# EAGLE library part LTC3529 (library MyParts)
1.5A, 1.5MHz Step-Up DC/DC Converter in 2mm × 3mm DFN
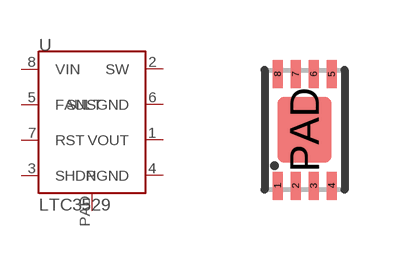
[diagram p17: symbol with the pads of DFN8_2X3; footprint DFN8_2X3]

Designator prefix -

## LTC3529EDCB#PBF  [DFN8_2X3]
1  VOUT  out
2  SW
3  SHDN  in
4  PGND
5  FAULT
6  SNSGND
7  RST  in
8  VIN  in
PAD  PAD

## Footprint DFN8_2X3 (pad centres in mm)
smd 0.25 x 0.7: 1 -0.675,-1.4; 2 -0.225,-1.4; 3 0.225,-1.4; 4 0.675,-1.4; 5 0.675,1.4; 6 0.225,1.4; 7 -0.225,1.4; 8 -0.675,1.4
smd 1.35 x 1.65: PAD 0,0